# Altium footprint library PCB封装.PcbLib: 150 footprints (part 3 of 10)
Each footprint in its own frame and in the unit in brackets; x right, y up, seen from the top. Pads: shape width x height; smd on the part's side, far side on the other; paste and mask are expansions set on the pad; w line width, h text height; cw(c..) or ccw(c..) is an arc to the next point about the centre after c.
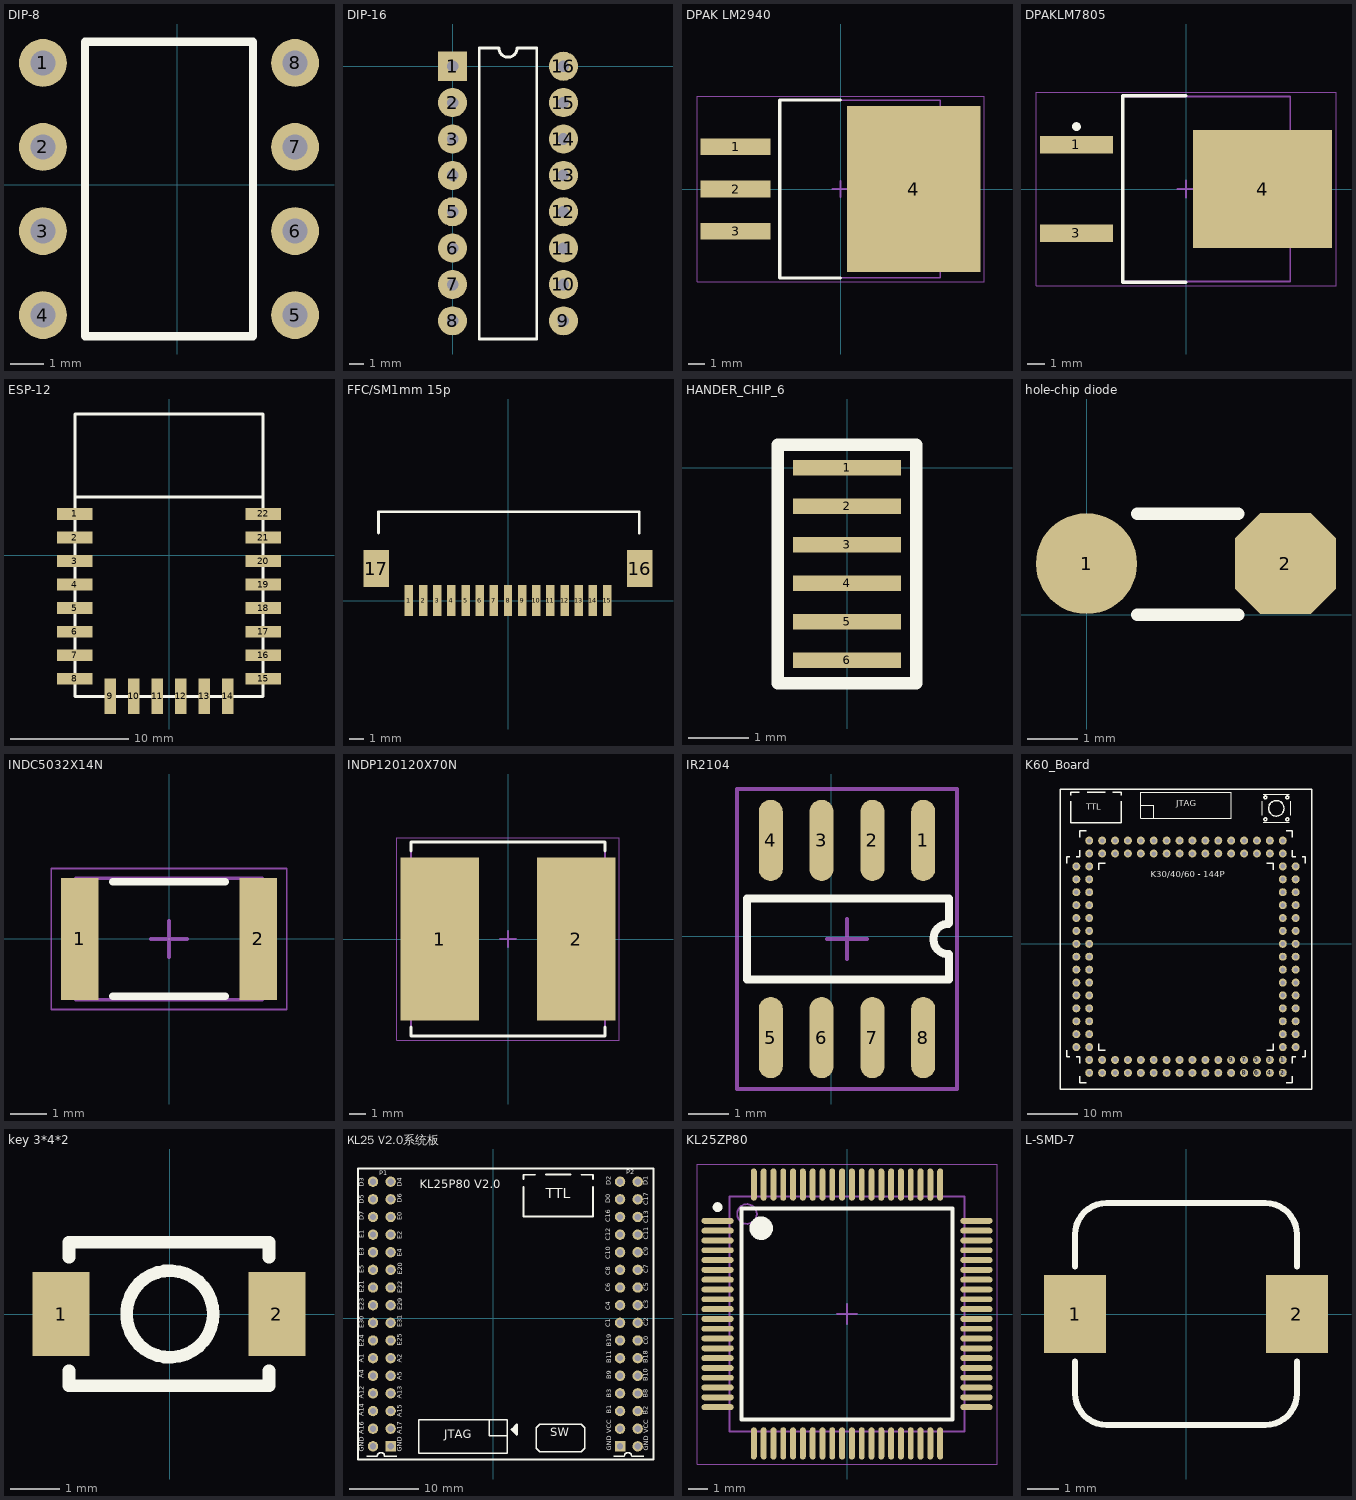
[diagram p2: the footprints below, top view; thin cyan lines are the x and y axes]

## DIP-8 [mil]
height 196.85
pads (8):
  round 57 hole 30: 1(-160,145) 2(-160,45) 3(-160,-55) 4(-160,-155) 5(140,-155) 6(140,-55) 7(140,45) 8(140,145)
Top Overlay:
  lines w10: -110,-180 90,-180 90,170 -110,170 -110,-180

## DIP-16 [mm]
pads (16):
  rect 2x2 hole 0.8: 1(0,0)
  round 2 hole 0.8: 2(0,-2.5) 3(0,-5) 4(0,-7.5) 5(0,-10) 6(0,-12.5) 7(0,-15) 8(0,-17.5) 9(7.62,-17.5) 10(7.62,-15) 11(7.62,-12.5) 12(7.62,-10) 13(7.62,-7.5) 14(7.62,-5) 15(7.62,-2.5) 16(7.62,0)
Top Overlay:
  lines w0.2: 1.835,-18.75 1.835,1.25 3.185,1.25 ccw(c3.81,1.25) 4.435,1.25 5.785,1.25 5.785,-18.75 1.835,-18.75

## DPAK LM2940 [mm] "D2-PAK, 4-Pads, Body 7.93x8.69mm (max), IPC Medium Density"
height 4.83
pads (4):
  rect 4.2x1 smd: 1(-6.3,2.54) 2(-6.3,0) 3(-6.3,-2.54)
  rect 8x10 smd: 4(4.4,0)
Top Overlay:
  lines w0.2: 0,-5.35 -3.65,-5.35 -3.65,5.35 0,5.35
Mechanical 13:
  lines w0.1: -3.65,-5.325 6,-5.325 6,5.325 -3.65,5.325 -3.65,-5.325
Mechanical 15:
  lines w0.05: -8.625,-5.575 8.625,-5.575 8.625,5.575 -8.625,5.575 -8.625,-5.575
  lines w0.1: -0.5,0 0.5,0 ; 0,-0.5 0,0.5
3D body: height 4.83, standoff 0.58, extent -3.65,-5.325 6,5.325

## DPAKLM7805 [mm] "D2-PAK, 3-Pads, Body 7.93x8.69mm (max), IPC Medium Density"
height 4.83
pads (3):
  rect 4.2x1 smd: 1(-6.3,2.54) 3(-6.3,-2.54)
  rect 8x6.8 smd: 4(4.4,0)
Top Overlay:
  circle w0.25: c-6.3,3.59 r0.125
  lines w0.2: 0,-5.35 -3.65,-5.35 -3.65,5.35 0,5.35
Mechanical 13:
  lines w0.1: -3.65,-5.325 6,-5.325 6,5.325 -3.65,5.325 -3.65,-5.325
Mechanical 15:
  lines w0.05: -8.625,-5.575 8.625,-5.575 8.625,5.575 -8.625,5.575 -8.625,-5.575
  lines w0.1: -0.5,0 0.5,0 ; 0,-0.5 0,0.5
3D body: height 4.83, standoff 0.58, extent -3.65,-5.325 6,5.325

## ESP-12 [mm]
height 3
pads (22):
  rect 3x1 smd: 1(-8,3.5) 2(-8,1.5) 3(-8,-0.5) 4(-8,-2.5) 5(-8,-4.5) 6(-8,-6.5) 7(-8,-8.5) 8(-8,-10.5) 15(8,-10.5) 16(8,-8.5) 17(8,-6.5) 18(8,-4.5) 19(8,-2.5) 20(8,-0.5) 21(8,1.5) 22(8,3.5)
  rect 1x3 smd: 9(-5,-12) 10(-3,-12) 11(-1,-12) 12(1,-12) 13(3,-12) 14(5,-12)
Top Overlay:
  lines w0.254: -8.001,4.953 8.001,4.953 ; -8,-12 8,-12 8,12 -8,12 -8,-12

## FFC/SM1mm 15p [mm] "Connector; FH12 Series; 15 Position; 0.5mm Spaced Bottom Contact"
height 2
pads (17):
  rect 0.6x2.2 smd: 1(-7,0) 2(-6,0) 3(-5,0) 4(-4,0) 5(-3,0) 6(-2,0) 7(-1,0) 8(0,0) 9(1,0) 10(2,0) 11(3,0) 12(4,0) 13(5,0) 14(6,0) 15(7,0)
  rect 1.8x2.6 smd: 16(9.3,2.26) 17(-9.3,2.26)
Top Overlay:
  lines w0.2: -9.144,4.776 -9.144,6.276 9.271,6.276 9.271,4.776
Mechanical 13:
  lines w0.1: -5.3,6.276 5.3,6.276

## HANDER_CHIP_6 [mil]
pads (6):
  rect 70x10 smd: 1(0,0) 2(0,-25) 3(0,-50) 4(0,-75) 5(0,-100) 6(0,-125)
Top Overlay:
  lines w8: -45,-140 -45,15 45,15 45,-140 -45,-140

## hole-chip diode [mm]
pads (2):
  round 2 smd: 1(0,1.016)
  oct 2x2 smd: 2(3.937,1.016)
Top Overlay:
  lines w0.245: 1,0 3,0 ; 1,2 3,2

## INDC5032X14N [mm] "5032"
height 1.35
pads (2):
  rect 1.03x3.36 smd: 1(-2.46,0) 2(2.46,0)
Top Overlay:
  lines w0.2: -1.55,-1.58 1.55,-1.58 ; -1.55,1.58 1.55,1.58
Mechanical 13:
  lines w0.1: -2.575,-1.675 -2.575,1.675 2.575,1.675 2.575,-1.675 -2.575,-1.675
Mechanical 15:
  lines w0.05: -3.25,-1.95 -3.25,1.95 3.25,1.95 3.25,-1.95 -3.25,-1.95
  lines w0.1: -0.5,0 0.5,0 ; 0,-0.5 0,0.5
3D body: height 1.35, standoff 0, extent -2.075,-1.675 2.075,1.675
3D body: height 1.35, standoff 0, extent -2.575,-1.675 -2.075,1.675
3D body: height 1.35, standoff 0, extent 2.075,-1.675 2.575,1.675

## INDP120120X70N [mm] "Precision Wire Wound Inductor, 2-Leads, Body 12.00x12.00mm, IPC Medium Density"
height 7
pads (2):
  rect 4.85x10.1 smd: 1(-4.225,0) 2(4.225,0)
Top Overlay:
  lines w0.2: -6,-5.45 -6,-6 6,-6 6,-5.45 ; -6,5.45 -6,6 6,6 6,5.45
Mechanical 13:
  lines w0.1: -6,-6 6,-6 6,6 -6,6 -6,-6
Mechanical 15:
  lines w0.05: -6.875,-6.25 6.875,-6.25 6.875,6.25 -6.875,6.25 -6.875,-6.25
  lines w0.1: -0.5,0 0.5,0 ; 0,-0.5 0,0.5
3D body: height 7, standoff 0, extent -6,-6 6,6

## IR2104 [mm]
height 3
pads (8):
  oval 0.6x2.032 smd: 1(2.298,2.394) 2(1.028,2.394) 3(-0.242,2.394) 4(-1.512,2.394) 5(-1.512,-2.534) 6(-0.242,-2.534) 7(1.028,-2.534) 8(2.298,-2.534)
Top Overlay:
  lines w0.2: 2.943,-1.086 -2.107,-1.086 -2.107,0.946 2.943,0.946
  lines w0.203: 2.933,-0.451 cw(c2.933,-0.07) 2.933,0.311 ; 2.943,-1.086 2.943,-0.451 ; 2.943,0.325 2.943,0.946
Mechanical 15:
  lines w0.1: -0.107,-0.07 0.893,-0.07 ; 0.393,-0.57 0.393,0.43 ; -2.357,-3.82 -2.357,3.68 3.143,3.68 3.143,-3.82 -2.357,-3.82

## K60_Board [mil]
pads (124):
  round 62 hole 35: 1(-1900,-900) 2(-1900,-1000) 3(-2000,-900) 4(-2000,-1000) 5(-2100,-900) 6(-2100,-1000) 7(-2200,-900) 8(-2200,-1000) 9(-2300,-900) 10(-2300,-1000) 11(-2400,-900) 12(-2400,-1000) 13(-2500,-900) 14(-2500,-1000) 15(-2600,-900) 16(-2600,-1000) 17(-2700,-900) 18(-2700,-1000) 19(-2800,-900) 20(-2800,-1000) 21(-2900,-900) 22(-2900,-1000) 23(-3000,-900) 24(-3000,-1000) 25(-3100,-900) 26(-3100,-1000) 27(-3200,-900) 28(-3200,-1000) 29(-3300,-900) 30(-3300,-1000) 31(-3400,-900) 32(-3400,-1000) 33(-3400,-800) 34(-3500,-800) 35(-3400,-700) 36(-3500,-700) 37(-3400,-600) 38(-3500,-600) 39(-3400,-500) 40(-3500,-500) 41(-3400,-400) 42(-3500,-400) 43(-3400,-300) 44(-3500,-300) 45(-3400,-200) 46(-3500,-200) 47(-3400,-100) 48(-3500,-100) 49(-3400,0) 50(-3500,0) 51(-3400,100) 52(-3500,100) 53(-3400,200) 54(-3500,200) 55(-3400,300) 56(-3500,300) 57(-3400,400) 58(-3500,400) 59(-3400,500) 60(-3500,500) 61(-3400,600) 62(-3500,600) 63(-3400,700) 64(-3400,800) 65(-3300,700) 66(-3300,800) 67(-3200,700) 68(-3200,800) 69(-3100,700) 70(-3100,800) 71(-3000,700) 72(-3000,800) 73(-2900,700) 74(-2900,800) 75(-2800,700) 76(-2800,800) 77(-2700,700) 78(-2700,800) 79(-2600,700) 80(-2600,800) 81(-2500,700) 82(-2500,800) 83(-2400,700) 84(-2400,800) 85(-2300,700) 86(-2300,800) 87(-2200,700) 88(-2200,800) 89(-2100,700) 90(-2100,800) 91(-2000,700) 92(-2000,800) 93(-1900,700) 94(-1900,800) 95(-1900,600) 96(-1800,600) 97(-1900,500) 98(-1800,500) 99(-1900,400) 100(-1800,400) 101(-1900,300) 102(-1800,300) 103(-1900,200) 104(-1800,200) 105(-1900,100) 106(-1800,100) 107(-1900,0) 108(-1800,0) 109(-1900,-100) 110(-1800,-100) 111(-1900,-200) 112(-1800,-200) 113(-1900,-300) 114(-1800,-300) 115(-1900,-400) 116(-1800,-400) 117(-1900,-500) 118(-1800,-500) 119(-1900,-600) 120(-1800,-600) 121(-1900,-700) 122(-1800,-700) 123(-1900,-800) 124(-1800,-800)
Top Overlay:
  circle w10: c-1865,1135 r11.18
  circle w10: c-1865,965 r11.18
  circle w10: c-2035,965 r11.18
  circle w10: c-2035,1135 r11.18
  circle w10: c-1950,1050 r60
  lines w7.87: -3000,1075 -2900,1075 -2900,975 ; -3000,975 -2300,975 -2300,1175 -3000,1175 -3000,975
  lines w8: -2060,995 -2060,1105 ; -2050,941.73 -1850,941.73 ; -2050,1158.27 -1850,1158.27 ; -1840,995 -1840,1105
  lines w10: -3575,-825 -3575,-875 -3550,-875 ; -3575,625 -3575,675 -3550,675 ; -3543.7,1106.57 -3543.7,938.78 -3150,938.78 -3150,1106.57 ; -3543.7,1151.57 -3543.7,1175 -3476.85,1175 ; -3500,-875 -3475,-875 -3475,-925 ; -3500,675 -3475,675 -3475,725 ; -3475,-1025 -3475,-1075 -3425,-1075 ; -3475,825 -3475,875 -3425,875 ; -3416.85,1176.57 -3276.85,1176.57 ; -3325,-775 -3325,-825 -3275,-825 ; -3325,575 -3325,625 -3275,625 ; -3216.85,1175 -3150,1175 -3150,1151.57 ; -2025,-825 -1975,-825 -1975,-775 ; -2025,625 -1975,625 -1975,575 ; -1875,-1075 -1825,-1075 -1825,-1025 ; -1875,875 -1825,875 -1825,825 ; -1825,-925 -1825,-875 -1800,-875 ; -1825,725 -1825,675 -1800,675 ; -1750,-875 -1725,-875 -1725,-825 ; -1750,675 -1725,675 -1725,625 ; -3625,-1125 -3625,-500 -3625,1200 -1675,1200 -1675,-600 -1675,-1125 -3625,-1125
  text "TTL" at -3425,1025 h80
  text "JTAG" at -2725,1050 h80
  text "K30/40/60 - 144P" at -2925,500 h80

## key 3*4*2 [mm]
height 2
pads (2):
  rect 1.15x1.7 smd: 1(-2.191,0) 2(2.159,0)
Top Overlay:
  circle w0.254: c0,0 r0.875
  lines w0.254: -2.032,-1.143 -2.032,-1.45 -0.9,-1.45 2,-1.45 2,-1.143 ; -2.032,1.143 -2.032,1.45 ; -2,1.45 2,1.45 2,1.143

## KL25 V2.0系统板 [mm]
pads (64):
  rect 1.5x1.5 hole 0.9: 101(-14.732,-18.415) 201(18.288,-18.415)
  round 1.5 hole 0.9: 102(-17.272,-18.415) 103(-14.732,-15.875) 104(-17.272,-15.875) 105(-14.732,-13.335) 106(-17.272,-13.335) 107(-14.732,-10.795) 108(-17.272,-10.795) 109(-14.732,-8.255) 110(-17.272,-8.255) 111(-14.732,-5.715) 112(-17.272,-5.715) 113(-14.732,-3.175) 114(-17.272,-3.175) 115(-14.732,-0.635) 116(-17.272,-0.635) 117(-14.732,1.905) 118(-17.272,1.905) 119(-14.732,4.445) 120(-17.272,4.445) 121(-14.732,6.985) 122(-17.272,6.985) 123(-14.732,9.525) 124(-17.272,9.525) 125(-14.732,12.065) 126(-17.272,12.065) 127(-14.732,14.605) 128(-17.272,14.605) 129(-14.732,17.145) 130(-17.272,17.145) 131(-14.732,19.685) 132(-17.272,19.685) 202(20.828,-18.415) 203(18.288,-15.875) 204(20.828,-15.875) 205(18.288,-13.335) 206(20.828,-13.335) 207(18.288,-10.795) 208(20.828,-10.795) 209(18.288,-8.255) 210(20.828,-8.255) 211(18.288,-5.715) 212(20.828,-5.715) 213(18.288,-3.175) 214(20.828,-3.175) 215(18.288,-0.635) 216(20.828,-0.635) 217(18.288,1.905) 218(20.828,1.905) 219(18.288,4.445) 220(20.828,4.445) 221(18.288,6.985) 222(20.828,6.985) 223(18.288,9.525) 224(20.828,9.525) 225(18.288,12.065) 226(20.828,12.065) 227(18.288,14.605) 228(20.828,14.605) 229(18.288,17.145) 230(20.828,17.145) 231(18.288,19.685) 232(20.828,19.685)
Top Overlay:
  lines w0.2: -0.508,-14.605 -0.508,-16.891 2.032,-16.891 ; -10.668,-19.431 -10.668,-14.605 2.032,-14.605 2.032,-19.431 -10.668,-19.431
  lines w0.203: -18.161,-19.812 -16.637,-19.812 cw(c-16.129,-19.812) -15.621,-19.812 -13.843,-19.812 ; 18.923,-19.812 cw(c19.431,-19.812) 19.939,-19.812 ; 18.923,-19.812 cw(c19.431,-19.812) 19.939,-19.812 ; 18.923,-19.812 17.399,-19.812 18.923,-19.812 ; 19.939,-19.812 21.717,-19.812 19.939,-19.812
  lines w0.254: 2.654,-16.015 3.111,-15.557 3.442,-15.557 3.467,-15.583 ; 2.908,-16.04 3.467,-15.481 ; 3.01,-16.294 3.162,-16.294 3.238,-16.218 ; 3.061,-15.608 3.429,-15.24 ; 3.238,-16.599 3.238,-15.837 ; 3.467,-16.345 3.238,-16.116 2.756,-16.116 3.413,-16.774 3.467,-16.751 3.467,-15.24 ; 4.398,18.923 4.398,14.661 14.398,14.661 14.398,18.923 ; 4.398,20.066 4.398,20.661 6.096,20.661 ; 6.223,-17.907 6.223,-15.748 6.731,-15.24 12.7,-15.24 13.208,-15.748 13.208,-17.907 ; 6.223,-17.78 6.223,-18.669 6.731,-19.177 12.7,-19.177 13.208,-18.669 13.208,-17.78 ; 7.62,20.701 11.176,20.701 ; 12.7,20.661 14.398,20.661 14.398,20.066 ; -19.431,-20.32 23.114,-20.32 23.114,21.59 -19.431,21.59 -19.431,-20.32
  text "TTL" at 7.62,16.764 h2.54
  text "SW" at 8.255,-17.399 h2.03
  text "JTAG" at -6.985,-17.653 h2.03
  text "D0" at 17.186,16.55 h1.14
  text "C16" at 17.145,13.843 h1.14
  text "C12" at 17.145,11.176 h1.14
  text "C10" at 17.145,8.509 h1.14
  text "C8" at 17.145,6.223 h1.14
  text "C6" at 17.145,3.81 h1.14
  text "C4" at 17.145,1.143 h1.14
  text "GND" at 17.272,-19.05 h1.14
  text "VCC" at 17.272,-16.51 h1.14
  text "B1" at 17.272,-13.716 h1.14
  text "B3" at 17.272,-11.43 h1.14
  text "B9" at 17.272,-8.763 h1.14
  text "B11" at 17.272,-6.477 h1.14
  text "B19" at 17.272,-4.064 h1.14
  text "C1" at 17.145,-1.27 h1.14
  text "E2" at -12.827,11.43 h1.14
  text "E4" at -12.827,8.89 h1.14
  text "A16" at -18.288,-16.637 h1.14
  text "A17" at -12.827,-16.637 h1.14
  text "A12" at -18.288,-11.557 h1.14
  text "A4" at -18.288,-8.636 h1.14
  text "GND" at -18.288,-19.177 h1.14
  text "A1" at -18.288,-6.35 h1.14
  text "E25" at -12.827,-3.937 h1.14
  text "E24" at -18.288,-4.064 h1.14
  text "E31" at -12.827,-1.27 h1.14
  text "E30" at -18.288,-1.397 h1.14
  text "E23" at -18.288,1.143 h1.14
  text "E29" at -12.786,1.183 h1.14
  text "E22" at -12.786,3.596 h1.14
  text "E21" at -18.288,3.683 h1.14
  text "E20" at -12.786,6.263 h1.14
  text "D3" at -18.288,18.923 h1.14
  text "C17" at 22.606,16.256 h1.14
  text "C13" at 22.606,13.716 h1.14
  text "C11" at 22.606,11.303 h1.14
  text "C7" at 22.606,6.477 h1.14
  text "C5" at 22.606,3.937 h1.14
  text "C2" at 22.606,-1.143 h1.14
  text "C0" at 22.606,-3.81 h1.14
  text "B18" at 22.596,-6.477 h1.14
  text "B10" at 22.596,-9.017 h1.14
  text "B8" at 22.596,-11.43 h1.14
  text "B2" at 22.596,-13.843 h1.14
  text "VCC" at 22.606,-16.51 h1.14
  text "A13" at -12.827,-11.557 h1.14
  text "A14" at -18.288,-14.097 h1.14
  text "A15" at -12.827,-14.224 h1.14
  text "A5" at -12.827,-8.89 h1.14
  text "A2" at -12.827,-6.35 h1.14
  text "GND" at -12.827,-19.177 h1.14
  text "E5" at -18.288,6.477 h1.14
  text "E3" at -18.288,9.017 h1.14
  text "E1" at -18.288,11.557 h1.14
  text "D4" at -12.827,18.923 h1.14
  text "D5" at -18.288,16.51 h1.14
  text "D6" at -12.827,16.637 h1.14
  text "D7" at -18.288,14.097 h1.14
  text "E0" at -12.827,14.097 h1.14
  text "C3" at 22.606,1.397 h1.14
  text "GND" at 22.606,-19.05 h1.14
  text "C9" at 22.606,9.017 h1.14
  text "P1" at -16.383,20.32 h1.14
  text "P2" at 19.177,20.447 h1.14
  text "KL25P80 V2.0" at -10.541,18.288 h2.03
  text "D1" at 22.596,19.177 h1.14
  text "D2" at 17.259,19.177 h1.14

## KL25ZP80 [mm]
height 1.6
pads (80):
  oval 1.65x0.3 smd: 1(-6.6,4.75) 2(-6.6,4.25) 3(-6.6,3.75) 4(-6.6,3.25) 5(-6.6,2.75) 6(-6.6,2.25) 7(-6.6,1.75) 8(-6.6,1.25) 9(-6.6,0.75) 10(-6.6,0.25) 11(-6.6,-0.25) 12(-6.6,-0.75) 13(-6.6,-1.25) 14(-6.6,-1.75) 15(-6.6,-2.25) 16(-6.6,-2.75) 17(-6.6,-3.25) 18(-6.6,-3.75) 19(-6.6,-4.25) 20(-6.6,-4.75) 41(6.6,-4.75) 42(6.6,-4.25) 43(6.6,-3.75) 44(6.6,-3.25) 45(6.6,-2.75) 46(6.6,-2.25) 47(6.6,-1.75) 48(6.6,-1.25) 49(6.6,-0.75) 50(6.6,-0.25) 51(6.6,0.25) 52(6.6,0.75) 53(6.6,1.25) 54(6.6,1.75) 55(6.6,2.25) 56(6.6,2.75) 57(6.6,3.25) 58(6.6,3.75) 59(6.6,4.25) 60(6.6,4.75)
  oval 0.3x1.65 smd: 21(-4.75,-6.6) 22(-4.25,-6.6) 23(-3.75,-6.6) 24(-3.25,-6.6) 25(-2.75,-6.6) 26(-2.25,-6.6) 27(-1.75,-6.6) 28(-1.25,-6.6) 29(-0.75,-6.6) 30(-0.25,-6.6) 31(0.25,-6.6) 32(0.75,-6.6) 33(1.25,-6.6) 34(1.75,-6.6) 35(2.25,-6.6) 36(2.75,-6.6) 37(3.25,-6.6) 38(3.75,-6.6) 39(4.25,-6.6) 40(4.75,-6.6) 61(4.75,6.6) 62(4.25,6.6) 63(3.75,6.6) 64(3.25,6.6) 65(2.75,6.6) 66(2.25,6.6) 67(1.75,6.6) 68(1.25,6.6) 69(0.75,6.6) 70(0.25,6.6) 71(-0.25,6.6) 72(-0.75,6.6) 73(-1.25,6.6) 74(-1.75,6.6) 75(-2.25,6.6) 76(-2.75,6.6) 77(-3.25,6.6) 78(-3.75,6.6) 79(-4.25,6.6) 80(-4.75,6.6)
Top Overlay:
  circle w0.6: c-4.375,4.375 r0.3
  circle w0.25: c-6.6,5.45 r0.125
  lines w0.2: -5.375,-5.375 5.375,-5.375 5.375,5.375 -5.375,5.375 -5.375,-5.375
Mechanical 13:
  circle w0.1: c-5.1,5.1 r0.5
  lines w0.1: -6,-6 6,-6 6,6 -6,6 -6,-6
Mechanical 15:
  lines w0.05: -7.65,-7.65 7.65,-7.65 7.65,7.65 -7.65,7.65 -7.65,-7.65
  lines w0.1: -0.5,0 0.5,0 ; 0,-0.5 0,0.5
3D body: height 1.6, standoff 0.15, extent -6,-6 6,6

## L-SMD-7 [mm]
pads (2):
  rect 2x2.5 smd: 1(-3.556,0) 2(3.556,0)
Top Overlay:
  lines w0.2: -3.556,-1.524 -3.556,-2.54 ccw(c-2.54,-2.54) -2.54,-3.556 2.54,-3.556 ccw(c2.54,-2.54) 3.556,-2.54 3.556,-1.524 ; -3.556,1.524 -3.556,2.54 cw(c-2.54,2.54) -2.54,3.556 2.54,3.556 cw(c2.54,2.54) 3.556,2.54 3.556,1.524
3D body: height 4, standoff 0, extent -3.556,-3.556 3.556,3.556